# Altium schematic symbol library SCH_LIB2SchLib.SchLib: 4 symbols
Pins are listed as number, name and electrical type; pins without a type are passive.

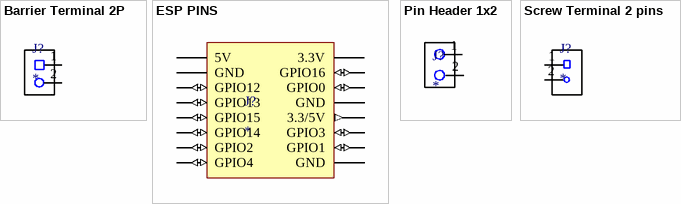
[diagram p0: symbols Barrier Terminal 2P to Screw Terminal 2 pins]

## Barrier Terminal 2P
designator J?
Manufacturer: DORABO; Manufacturer Part #: DBT50G-9.5-2P-BK-P OGC; Seller Part #: 3496300101634; Seller: Makers Electronics
footprint Barrier Terminal 2P
pins: 1 +, 2 -

## ESP PINS
designator J?
footprint ESP32 CAM
pins: 0 GPIO0 (io), 1 GPIO1 (io), 2 GPIO2 (io), 3 GPIO3 (io), 3.3/5V (out), 3.3V (power), 4 GPIO4 (io), 5V (power), 12 GPIO12 (io), 13 GPIO13 (io), 14 GPIO14 (io), 15 GPIO15 (io), 16 GPIO16 (io), GND (power), GNDR GND (power), GRND GND (power)

## Pin Header 1x2
designator J?
footprint Pin Header 1x2
pins: 1, 2

## Screw Terminal 2 pins
designator J?
Brass Alloy 1x2P 16A -40℃~+105℃ 300V Blue Tin 12~24 Direct Insert 5.08mm 1 2 Plugin,P=5.08mm Screw Terminal Blocks ROHS; Manufacturer: CUI; Manufacturer Part Number: TB004-508-02BE; Supplier: LSCS ELECTRONICS; Supplier Part Number: C3818636
footprint Screw Terminal 2 pins
pins: 1, 2